# Altium footprint library MP1584_rule.PcbLib: 1 footprints
Each footprint in its own frame and in the unit in brackets; x right, y up, seen from the top. Pads: shape width x height; smd on the part's side, far side on the other; paste and mask are expansions set on the pad; w line width, h text height; cw(c..) or ccw(c..) is an arc to the next point about the centre after c.
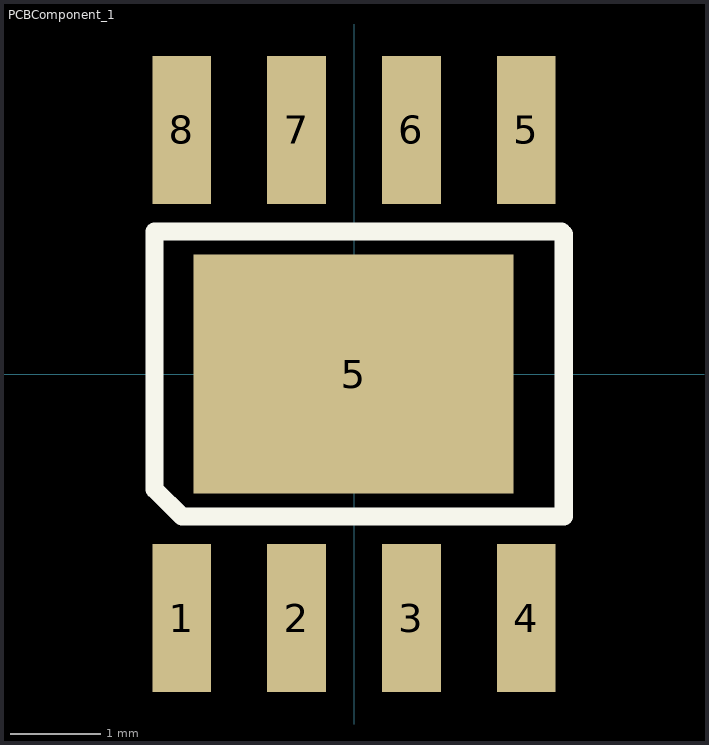
[diagram p0: the footprint, top view; thin cyan lines are the x and y axes]

## PCBComponent_1 [mm]
pads (9):
  rect 0.65x1.64 smd: 1(-1.905,-2.7) 2(-0.635,-2.7) 3(0.635,-2.7) 4(1.905,-2.7) 5(1.905,2.7) 6(0.635,2.7) 7(-0.635,2.7) 8(-1.905,2.7)
  rect 3.54x2.64 smd: 5(-0.005,0)
Top Overlay:
  lines w0.2: -2.205,-1.275 -1.905,-1.575 2.32,-1.575 2.32,1.55 2.295,1.575 0.245,1.575 -2.205,1.575 -2.205,-1.275